# Altium footprint library JACK.PCBLIB: 92 footprints (part 6 of 6)
Each footprint in its own frame and in the unit in brackets; x right, y up, seen from the top. Pads: shape width x height; smd on the part's side, far side on the other; paste and mask are expansions set on the pad; w line width, h text height; cw(c..) or ccw(c..) is an arc to the next point about the centre after c.
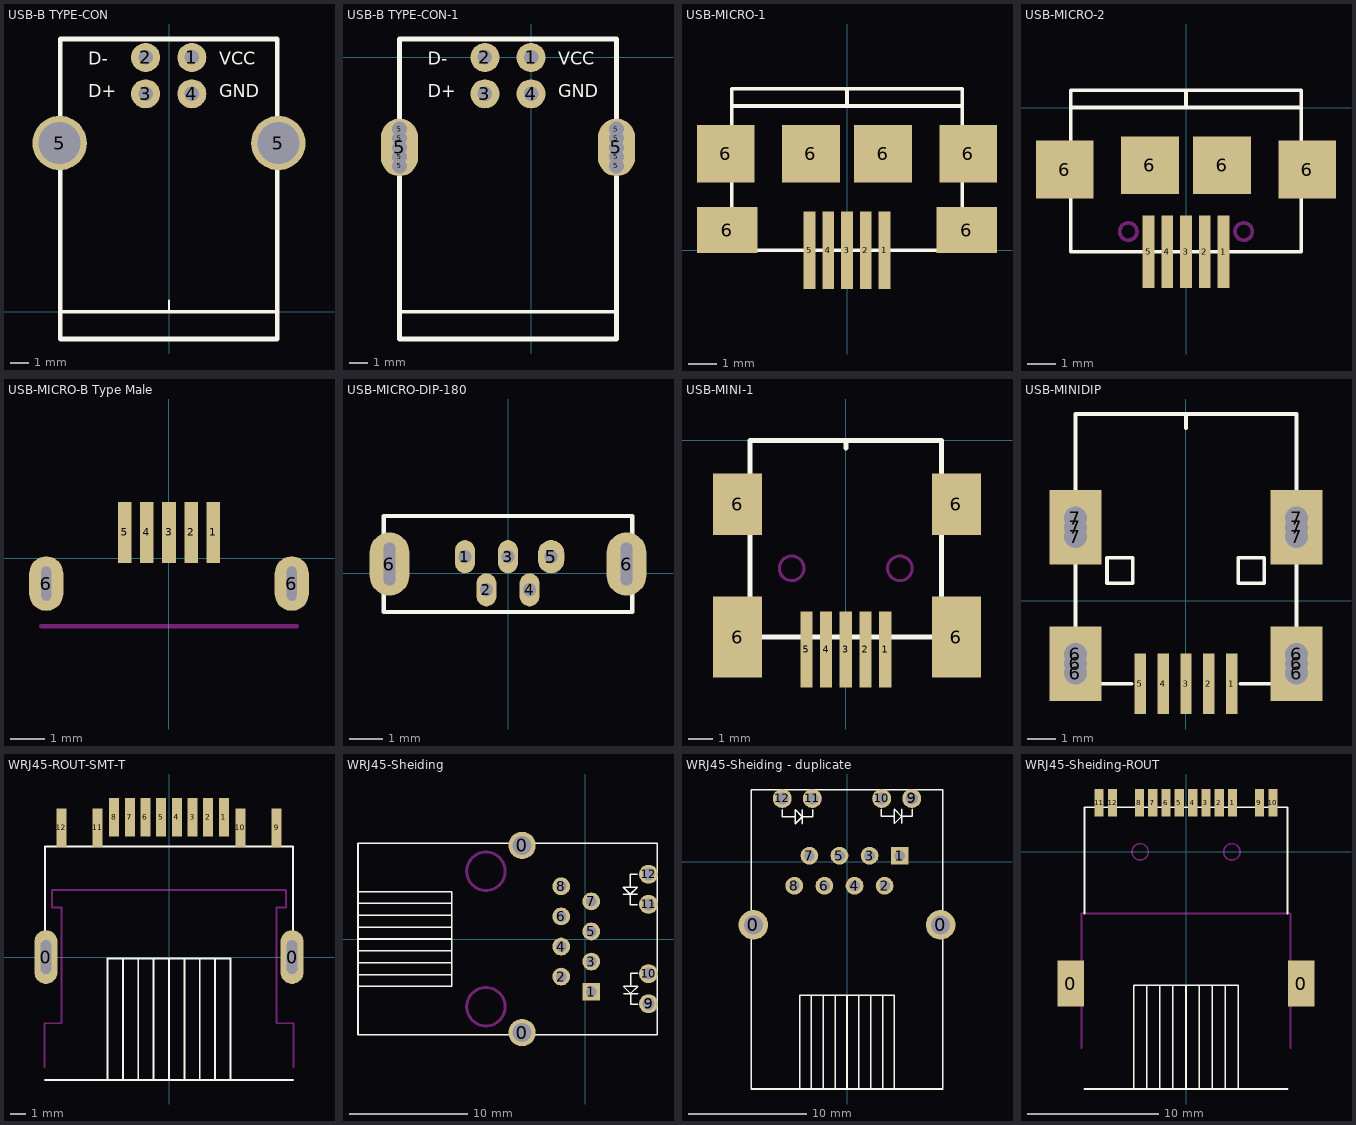
[diagram p5: the footprints below, top view; thin cyan lines are the x and y axes]

## USB-B TYPE-CON [mm]
pads (6):
  round 1.6 hole 0.8: 1(1.255,14) 2(-1.285,14) 3(-1.285,12) 4(1.255,12)
  round 3 hole 2.3: 5(-6.02,9.29) 5(6.02,9.29)
TopOverlay:
  lines w0.127: 0,0 0,0.615
  lines w0.203: -5.984,0 5.954,0
  lines w0.254: -5.984,-1.494 5.954,-1.494 5.954,15.016 -5.984,15.016 -5.984,-1.494
  text "VCC" at 2.755,13.6 h0.7
  text "GND" at 2.755,11.8 h0.7
  text "D-" at -4.445,13.6 h0.7
  text "D+" at -4.445,11.8 h0.7

## USB-B TYPE-CON-1 [mil]
pads (14):
  round 62.99 hole 31.5: 1(0,0) 2(-100,0) 3(-100,-78.74) 4(0,-78.74)
  round 20 hole 32: 5(-285,-235) 5(-285,-215) 5(-285,-175) 5(-285,-155) 5(185,-235) 5(185,-215) 5(185,-175) 5(185,-155)
  oval 80x125 hole 32: 5(-285,-195) 5(185,-195)
TopOverlay:
  lines w8: -285,-551.18 185,-551.18
  lines w10: -285,-610 -285,40 185,40 185,-610 -285,-610
  text "D+" at -224.41,-86.61 h27.56
  text "D-" at -224.41,-15.75 h27.56
  text "GND" at 59.06,-86.61 h27.56
  text "VCC" at 59.06,-15.75 h27.56

## USB-MICRO-1 [mm]
pads (11):
  rect 0.4x2.7 smd: 1(1.3,0) 2(0.65,0) 3(0,0) 4(-0.65,0) 5(-1.3,0)
  rect 2x2 smd: 6(-4.2,3.35) 6(-1.25,3.35) 6(1.25,3.35) 6(4.2,3.35)
  rect 2.1x1.6 smd: 6(-4.15,0.7) 6(4.15,0.7)
TopOverlay:
  lines w0.127: 0,5 0,5.6 ; -4,5 -4,5.6 4,5.6 4,5 ; -4,5 4,5 ; -4,5 -4,0 4,0 4,5

## USB-MICRO-2 [mm]
pads (9):
  rect 0.4x2.5 smd: 1(1.3,-5) 2(0.65,-5) 3(0,-5) 4(-0.65,-5) 5(-1.3,-5)
  rect 2x2 smd: 6(-4.2,-2.15) 6(-1.25,-2) 6(1.25,-2) 6(4.2,-2.15)
TopOverlay:
  lines w0.127: 0,0 0,0.6 ; -4,0 -4,0.6 4,0.6 4,0 ; -4,0 4,0 ; -4,0 -4,-5 4,-5 4,0
KeepOutLayer:
  circle w0.127: c2,-4.3 r0.3
  circle w0.127: c-2,-4.3 r0.3

## USB-MICRO-B Type Male [mm] "USB-MICRO-B Type Male"
pads (7):
  rect 0.4x1.8 smd: 1(1.3,0.75) 2(0.65,0.75) 3(0,0.75) 4(-0.65,0.75) 5(-1.3,0.75)
  oval 1x1.6 hole 0.28 slot 1 at 90 deg: 6(-3.6,-0.75) 6(3.6,-0.75)
KeepOutLayer:
  lines w0.127: -3.75,-2 3.75,-2

## USB-MICRO-DIP-180 [mm] "USB-MICRO-DIP-180"
pads (7):
  oval 0.6x1 hole 0.4: 1(-1.3,0.5) 2(-0.65,-0.5) 3(0,0.5) 4(0.65,-0.5)
  oval 0.8x1 hole 0.4: 5(1.3,0.5)
  oval 1.2x1.9 hole 0.35 slot 1.3 at 90 deg: 6(-3.575,0.28) 6(3.575,0.28)
TopOverlay:
  lines w0.127: -3.75,-1.17 3.75,-1.17 3.75,1.73 -3.75,1.73 -3.75,-1.17

## USB-MINI-1 [mm]
pads (9):
  rect 0.5x3.1 smd: 1(1.6,-8.5) 2(0.8,-8.5) 3(0,-8.5) 4(-0.8,-8.5) 5(-1.6,-8.5)
  rect 2x3.3 smd: 6(-4.4,-8) 6(4.5,-8)
  rect 2x2.5 smd: 6(-4.4,-2.6) 6(4.5,-2.6)
TopOverlay:
  lines w0.203: -3.6,-8 -3.6,-9 -3.9,-9 -3.9,-8 ; 0,-0.3 0,0 ; 3.6,-8 3.6,-9 3.9,-9 3.9,-8 ; -3.9,-8 -3.9,0 3.9,0 3.9,-8 ; -3.9,-8 3.9,-8
KeepOutLayer:
  circle w0.127: c-2.2,-5.2 r0.5
  circle w0.127: c2.2,-5.2 r0.5

## USB-MINIDIP [mm]
pads (17):
  rect 0.4x2.1 smd: 1(1.6,-2.887) 2(0.8,-2.887) 3(0,-2.887) 4(-0.8,-2.887) 5(-1.6,-2.887)
  round 1.524 hole 0.8: 6(-3.85,-2.513) 6(-3.85,-1.863) 6(3.85,-2.513) 6(3.85,-1.863) 7(-3.85,2.237) 7(-3.85,2.887) 7(3.85,2.237) 7(3.85,2.887)
  rect 1.8x2.6 hole 0.8: 6(-3.85,-2.187) 6(3.85,-2.188) 7(-3.85,2.562) 7(3.85,2.562)
TopOverlay:
  lines w0.127: -3.85,-1.388 -3.85,6.512 3.85,6.512 3.85,-1.388 ; -3.6,-2.887 -1.9,-2.887 ; 0,6.013 0,6.512 ; 1.9,-2.887 3.6,-2.887 ; -2.75,0.612 -2.75,1.511 -1.85,1.511 -1.85,0.612 -2.75,0.612 ; 1.825,0.612 2.724,0.612 2.724,1.511 1.825,1.511 1.825,0.612

## WRJ45-ROUT-SMT-T [mm] "WRJ45-ROUT-SMT-T"
pads (14):
  oval 1.5x3.5 hole 0.7 slot 2.2 at 90 deg: 0(-8,0) 0(8,0)
  rect 0.65x2.5 smd: 1(3.57,9.1) 2(2.55,9.1) 3(1.53,9.1) 4(0.51,9.1) 5(-0.51,9.1) 6(-1.53,9.1) 7(-2.55,9.1) 8(-3.57,9.1) 9(6.99,8.4) 10(4.64,8.4) 11(-4.64,8.4) 12(-6.99,8.4)
TopOverlay:
  lines w0.127: -8.05,-8 8.05,-8 ; -8.05,1.625 -8.05,7.2 8.05,7.2 8.05,1.6 ; -4,-8 -4,-0.085 4,-0.085 4,-8 ; -3,-8 -3,-0.085 ; -2,-8 -2,-0.085 ; -1,-8 -1,-0.085 ; 0,-8 0,-0.085 ; 1,-8 1,-0.085 ; 2,-8 2,-0.085 ; 3,-8 3,-0.085
KeepOutLayer:
  lines w0.127: -8.1,-7.15 -8.1,-4.3 -7,-4.3 -7,3.225 -7.6,3.225 -7.6,4.35 7.6,4.35 7.6,3.225 7,3.225 7,-4.3 8.1,-4.3 8.1,-7.15

## WRJ45-Sheiding [mm] "WRJ45-Sheiding"
pads (14):
  round 2.3 hole 1.6: 0(-5.335,-7.9) 0(-5.335,7.9)
  rect 1.5x1.5 hole 0.9: 1(0.505,-4.445)
  round 1.5 hole 0.9: 2(-2.035,-3.175) 3(0.505,-1.905) 4(-2.035,-0.635) 5(0.505,0.635) 6(-2.035,1.905) 7(0.505,3.175) 8(-2.035,4.445)
  round 1.6 hole 1.02: 9(5.335,-5.465) 10(5.335,-2.925) 11(5.335,2.925) 12(5.335,5.465)
TopOverlay:
  lines w0.127: -19.185,-4 -11.27,-4 -11.27,4 -19.185,4 ; -19.185,-3 -11.27,-3 ; -19.185,-2 -11.27,-2 ; -19.185,-1 -11.27,-1 ; -19.185,0 -11.27,0 ; -19.185,1 -11.27,1 ; -19.185,2 -11.27,2 ; -19.185,3 -11.27,3 ; 3.2,3.775 4.4,3.775 ; 3.225,-4.6 4.425,-4.6 ; 3.8,4.375 3.8,5.475 4.4,5.475 ; 3.825,-4 3.825,-2.9 4.425,-2.9 ; 4.4,2.875 3.8,2.875 3.8,3.775 ; 4.425,-5.5 3.825,-5.5 3.825,-4.6 ; 3.8,3.775 3.2,4.375 4.4,4.375 3.8,3.775 ; 3.825,-4.6 3.225,-4 4.425,-4 3.825,-4.6 ; -19.185,-8.1 -19.185,8.1 6.085,8.1 6.085,-8.1 -19.185,-8.1
KeepOutLayer:
  circle w0.254: c-8.385,5.715 r1.625
  circle w0.254: c-8.385,-5.715 r1.625

## WRJ45-Sheiding - duplicate [mm] "WRJ45-Sheiding"
pads (14):
  round 2.5 hole 1.6: 0(-7.9,-5.335) 0(7.9,-5.335)
  rect 1.5x1.5 hole 0.9: 1(4.445,0.505)
  round 1.5 hole 0.9: 2(3.175,-2.035) 3(1.905,0.505) 4(0.635,-2.035) 5(-0.635,0.505) 6(-1.905,-2.035) 7(-3.175,0.505) 8(-4.445,-2.035)
  round 1.6 hole 1.02: 9(5.465,5.335) 10(2.925,5.335) 11(-2.925,5.335) 12(-5.465,5.335)
TopOverlay:
  lines w0.127: -5.475,4.4 -5.475,3.8 -4.375,3.8 ; -4,-19.185 -4,-11.27 4,-11.27 4,-19.185 ; -3.775,3.2 -3.775,4.4 ; -3,-19.185 -3,-11.27 ; -2.875,4.4 -2.875,3.8 -3.775,3.8 ; -2,-19.185 -2,-11.27 ; -1,-19.185 -1,-11.27 ; 0,-19.185 0,-11.27 ; 1,-19.185 1,-11.27 ; 2,-19.185 2,-11.27 ; 2.9,4.425 2.9,3.825 4,3.825 ; 3,-19.185 3,-11.27 ; 4.6,3.225 4.6,4.425 ; 5.5,4.425 5.5,3.825 4.6,3.825 ; -3.775,3.8 -4.375,3.2 -4.375,4.4 -3.775,3.8 ; 4.6,3.825 4,3.225 4,4.425 4.6,3.825 ; -8.1,-19.185 8.1,-19.185 8.1,6.085 -8.1,6.085 -8.1,-19.185

## WRJ45-Sheiding-ROUT [mm] "WRJ45-Sheiding-ROUT"
pads (14):
  rect 2x3.5 smd: 0(-8.8,-10.05) 0(8.8,-10.05)
  rect 0.7x2.1 smd: 1(3.56,3.75) 2(2.54,3.75) 3(1.52,3.75) 4(0.51,3.75) 5(-0.51,3.75) 6(-1.52,3.75) 7(-2.54,3.75) 8(-3.56,3.75) 9(5.61,3.75) 10(6.63,3.75) 11(-6.63,3.75) 12(-5.61,3.75)
TopOverlay:
  lines w0.127: -7.75,-18.1 7.75,-18.1 ; -7.75,-4.7 -7.75,3.4 7.75,3.4 7.75,-4.7 ; -4,-18.1 -4,-10.185 4,-10.185 4,-18.1 ; -3,-18.1 -3,-10.185 ; -2,-18.1 -2,-10.185 ; -1,-18.1 -1,-10.185 ; 0,-18.1 0,-10.185 ; 1,-18.1 1,-10.185 ; 2,-18.1 2,-10.185 ; 3,-18.1 3,-10.185
KeepOutLayer:
  circle w0.127: c-3.5,0 r0.625
  circle w0.127: c3.5,0 r0.625
  lines w0.127: -7.975,-15 -7.975,-4.7 7.975,-4.7 7.975,-15